# Altium footprint library Crystal Osc..PcbLib: 2 footprints
Each footprint in its own frame and in the unit in brackets; x right, y up, seen from the top. Pads: shape width x height; smd on the part's side, far side on the other; paste and mask are expansions set on the pad; w line width, h text height; cw(c..) or ccw(c..) is an arc to the next point about the centre after c.
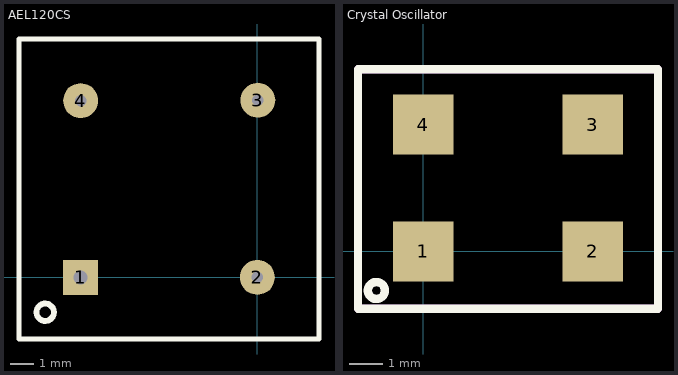
[diagram p0: the footprints below, top view; thin cyan lines are the x and y axes]

## AEL120CS [mm]
pads (4):
  rect 1.5x1.5 hole 0.6: 1(-7.6,0)
  round 1.5 hole 0.5: 2(0,0) 3(0.02,7.62) 4(-7.6,7.6)
Top Overlay:
  circle w0.254: c-9.125,-1.5 r0.375
  lines w0.2: -10.25,-2.65 -10.25,10.25 2.65,10.25 2.65,-2.65 -10.25,-2.65
3D body: height 4.9, standoff -6.3, extent -10.175,-2.525 2.475,10.125

## Crystal Oscillator [mm]
height 0.051
pads (4):
  rect 1.8x1.8 smd: 1(0,0) 2(5.08,0) 3(5.08,3.8) 4(0,3.8)
Top Overlay:
  circle w0.254: c-1.405,-1.175 r0.255
  lines w0.254: -1.956,-1.727 -1.956,5.461 7.036,5.461 7.036,-1.727 -1.956,-1.727
Mechanical 1:
  lines w0.254: -1.956,-1.727 -1.956,5.461 7.036,5.461 7.036,-1.727 -1.956,-1.727
3D body: height 1.31, standoff 0, extent -0.975,-0.6 6.025,4.4